# Altium schematic symbol library CRCW020110K0FNED.SchLib: 1 symbol
Pins are listed as number, name and electrical type; pins without a type are passive.

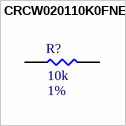
[diagram p0: symbol CRCW020110K0FNED]

## CRCW020110K0FNED
designator R?  Resistance: 10k  Tolerance: 1%  (hidden comment: CRCW020110K0FNED)
RES SMD 10K OHM 1% 1/20W 0201; MFR: Vishay Dale; Power Rating: 0.05; PN: CRCW020110K0FNED; Footprint: RES0201; Package: 0201; ComponentLink1Description: Datasheet; ComponentLink1URL: https://www.vishay.com/docs/20052/crcw0201e3.pdf; Supplier 1: Digi-Key; Supplier Part Number 1: 541-10.0KABCT-ND
footprint RES0201 (A generic 0201 footprint)
pins: 1, 2